# EAGLE library part ADAFRUIT_LSM9DS1_LSM9DS1_BREAKOUT (library onspeed)
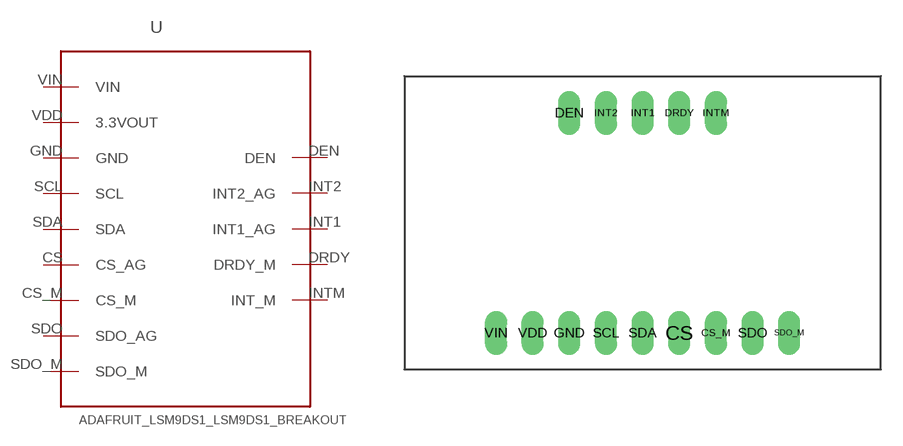
[diagram p4: symbol with the pads of ADAFRUIT_LSM9DS1_LSM9DS1_BREAKOUT; footprint ADAFRUIT_LSM9DS1_LSM9DS1_BREAKOUT]

Designator prefix -

## ADAFRUIT_LSM9DS1_LSM9DS1_BREAKOUT  [ADAFRUIT_LSM9DS1_LSM9DS1_BREAKOUT]
CS  CS_AG
CS_M  CS_M
DEN  DEN
DRDY  DRDY_M
GND  GND  pwr
INT1  INT1_AG
INT2  INT2_AG
INTM  INT_M
SCL  SCL
SDA  SDA
SDO  SDO_AG
SDO_M  SDO_M
VDD  3.3VOUT  out
VIN  VIN  pwr

## Footprint ADAFRUIT_LSM9DS1_LSM9DS1_BREAKOUT (pad centres in mm)
drill 1.016 long: CS 0,-5.08; CS_M 2.54,-5.08; DEN -7.62,10.16; DRDY 0,10.16; GND -7.62,-5.08; INT1 -2.54,10.16; INT2 -5.08,10.16; INTM 2.54,10.16; SCL -5.08,-5.08; SDA -2.54,-5.08; SDO 5.08,-5.08; SDO_M 7.62,-5.08; VDD -10.16,-5.08; VIN -12.7,-5.08